# Altium integrated library WE-GFH_rev15a.intlib: 45 symbols
Pins are listed as number, name and electrical type; pins without a type are passive.

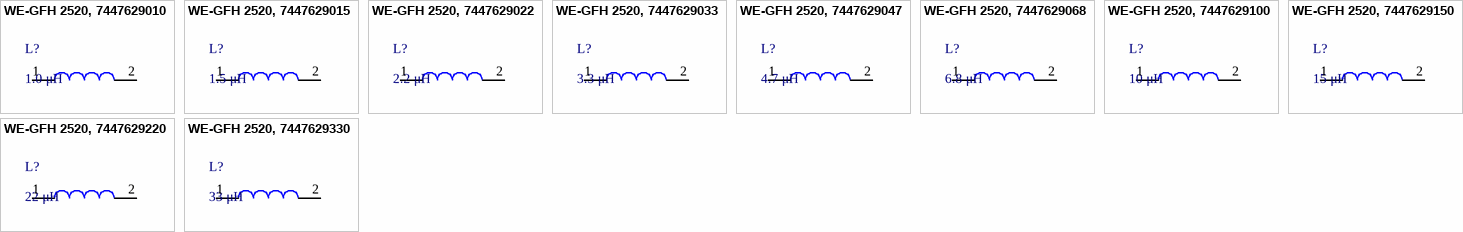
[diagram p0: symbols WE-GFH 2520, 7447629010 to WE-GFH 2520, 7447629330]

## WE-GFH 2520, 7447629010
designator L?, comment 1.0 μH
WE-GFH SMD Wire Wound Inductor, Inductance = 1.0 μH; partNo: 7447629010; Manufacturer: Wurth Elektronik; Inductance: 1.0 μH; ComponentLink1Description: Manufacturer; ComponentLink1URL: http://www.we-online.de; Created by: Baojun Chen; Created Date: Nov.2015; ComponentLink2Description: Datasheet; ComponentLink2URL: http://katalog.we-online.de/pbs/datasheet/7447629010.pdf
footprint WE-GFH_2520
pins: 1, 2

## WE-GFH 2520, 7447629015
designator L?, comment 1.5 μH
WE-GFH SMD Wire Wound Inductor, Inductance = 1.5 μH; partNo: 7447629015; Manufacturer: Wurth Elektronik; Inductance: 1.5 μH; ComponentLink1Description: Manufacturer; ComponentLink1URL: http://www.we-online.de; Created by: Baojun Chen; Created Date: Nov.2015; ComponentLink2Description: Datasheet; ComponentLink2URL: http://katalog.we-online.de/pbs/datasheet/7447629015.pdf
footprint WE-GFH_2520
pins: 1, 2

## WE-GFH 2520, 7447629022
designator L?, comment 2.2 μH
WE-GFH SMD Wire Wound Inductor, Inductance = 2.2 μH; partNo: 7447629022; Manufacturer: Wurth Elektronik; Inductance: 2.2 μH; ComponentLink1Description: Manufacturer; ComponentLink1URL: http://www.we-online.de; Created by: Baojun Chen; Created Date: Nov.2015; ComponentLink2Description: Datasheet; ComponentLink2URL: http://katalog.we-online.de/pbs/datasheet/7447629022.pdf
footprint WE-GFH_2520
pins: 1, 2

## WE-GFH 2520, 7447629033
designator L?, comment 3.3 μH
WE-GFH SMD Wire Wound Inductor, Inductance = 3.3 μH; partNo: 7447629033; Manufacturer: Wurth Elektronik; Inductance: 3.3 μH; ComponentLink1Description: Manufacturer; ComponentLink1URL: http://www.we-online.de; Created by: Baojun Chen; Created Date: Nov.2015; ComponentLink2Description: Datasheet; ComponentLink2URL: http://katalog.we-online.de/pbs/datasheet/7447629033.pdf
footprint WE-GFH_2520
pins: 1, 2

## WE-GFH 2520, 7447629047
designator L?, comment 4.7 μH
WE-GFH SMD Wire Wound Inductor, Inductance = 4.7 μH; partNo: 7447629047; Manufacturer: Wurth Elektronik; Inductance: 4.7 μH; ComponentLink1Description: Manufacturer; ComponentLink1URL: http://www.we-online.de; Created by: Baojun Chen; Created Date: Nov.2015; ComponentLink2Description: Datasheet; ComponentLink2URL: http://katalog.we-online.de/pbs/datasheet/7447629047.pdf
footprint WE-GFH_2520
pins: 1, 2

## WE-GFH 2520, 7447629068
designator L?, comment 6.8 μH
WE-GFH SMD Wire Wound Inductor, Inductance = 6.8 μH; partNo: 7447629068; Manufacturer: Wurth Elektronik; Inductance: 6.8 μH; ComponentLink1Description: Manufacturer; ComponentLink1URL: http://www.we-online.de; Created by: Baojun Chen; Created Date: Nov.2015; ComponentLink2Description: Datasheet; ComponentLink2URL: http://katalog.we-online.de/pbs/datasheet/7447629068.pdf
footprint WE-GFH_2520
pins: 1, 2

## WE-GFH 2520, 7447629100
designator L?, comment 10 μH
WE-GFH SMD Wire Wound Inductor, Inductance = 10 μH; partNo: 7447629100; Manufacturer: Wurth Elektronik; Inductance: 10 μH; ComponentLink1Description: Manufacturer; ComponentLink1URL: http://www.we-online.de; Created by: Baojun Chen; Created Date: Nov.2015; ComponentLink2Description: Datasheet; ComponentLink2URL: http://katalog.we-online.de/pbs/datasheet/7447629100.pdf
footprint WE-GFH_2520
pins: 1, 2

## WE-GFH 2520, 7447629150
designator L?, comment 15 μH
WE-GFH SMD Wire Wound Inductor, Inductance = 15 μH; partNo: 7447629150; Manufacturer: Wurth Elektronik; Inductance: 15 μH; ComponentLink1Description: Manufacturer; ComponentLink1URL: http://www.we-online.de; Created by: Baojun Chen; Created Date: Nov.2015; ComponentLink2Description: Datasheet; ComponentLink2URL: http://katalog.we-online.de/pbs/datasheet/7447629150.pdf
footprint WE-GFH_2520
pins: 1, 2

## WE-GFH 2520, 7447629220
designator L?, comment 22 μH
WE-GFH SMD Wire Wound Inductor, Inductance = 22 μH; partNo: 7447629220; Manufacturer: Wurth Elektronik; Inductance: 22 μH; ComponentLink1Description: Manufacturer; ComponentLink1URL: http://www.we-online.de; Created by: Baojun Chen; Created Date: Nov.2015; ComponentLink2Description: Datasheet; ComponentLink2URL: http://katalog.we-online.de/pbs/datasheet/7447629220.pdf
footprint WE-GFH_2520
pins: 1, 2

## WE-GFH 2520, 7447629330
designator L?, comment 33 μH
WE-GFH SMD Wire Wound Inductor, Inductance = 33 μH; partNo: 7447629330; Manufacturer: Wurth Elektronik; Inductance: 33 μH; ComponentLink1Description: Manufacturer; ComponentLink1URL: http://www.we-online.de; Created by: Baojun Chen; Created Date: Nov.2015; ComponentLink2Description: Datasheet; ComponentLink2URL: http://katalog.we-online.de/pbs/datasheet/7447629330.pdf
footprint WE-GFH_2520
pins: 1, 2


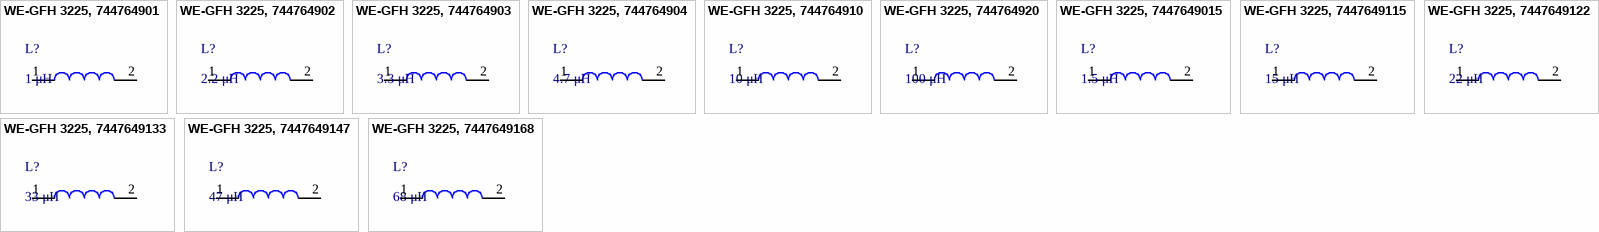
[diagram p1: symbols WE-GFH 3225, 744764901 to WE-GFH 3225, 7447649168]

## WE-GFH 3225, 744764901
designator L?, comment 1 μH
WE-GFH SMD Wire Wound Inductor, Inductance = 1 μH; partNo: 744764901; Manufacturer: Wurth Elektronik; Inductance: 1 μH; ComponentLink1Description: Manufacturer; ComponentLink1URL: http://www.we-online.de; Created by: Baojun Chen; Created Date: Nov.2015; ComponentLink2Description: Datasheet; ComponentLink2URL: http://katalog.we-online.de/pbs/datasheet/744764901.pdf
footprint WE-GFH_3225
pins: 1, 2

## WE-GFH 3225, 744764902
designator L?, comment 2.2 μH
WE-GFH SMD Wire Wound Inductor, Inductance = 2.2 μH; partNo: 744764902; Manufacturer: Wurth Elektronik; Inductance: 2.2 μH; ComponentLink1Description: Manufacturer; ComponentLink1URL: http://www.we-online.de; Created by: Baojun Chen; Created Date: Nov.2015; ComponentLink2Description: Datasheet; ComponentLink2URL: http://katalog.we-online.de/pbs/datasheet/744764902.pdf
footprint WE-GFH_3225
pins: 1, 2

## WE-GFH 3225, 744764903
designator L?, comment 3.3 μH
WE-GFH SMD Wire Wound Inductor, Inductance = 3.3 μH; partNo: 744764903; Manufacturer: Wurth Elektronik; Inductance: 3.3 μH; ComponentLink1Description: Manufacturer; ComponentLink1URL: http://www.we-online.de; Created by: Baojun Chen; Created Date: Nov.2015; ComponentLink2Description: Datasheet; ComponentLink2URL: http://katalog.we-online.de/pbs/datasheet/744764903.pdf
footprint WE-GFH_3225
pins: 1, 2

## WE-GFH 3225, 744764904
designator L?, comment 4.7 μH
WE-GFH SMD Wire Wound Inductor, Inductance = 4.7 μH; partNo: 744764904; Manufacturer: Wurth Elektronik; Inductance: 4.7 μH; ComponentLink1Description: Manufacturer; ComponentLink1URL: http://www.we-online.de; Created by: Baojun Chen; Created Date: Nov.2015; ComponentLink2Description: Datasheet; ComponentLink2URL: http://katalog.we-online.de/pbs/datasheet/744764904.pdf
footprint WE-GFH_3225
pins: 1, 2

## WE-GFH 3225, 744764910
designator L?, comment 10 μH
WE-GFH SMD Wire Wound Inductor, Inductance = 10 μH; partNo: 744764910; Manufacturer: Wurth Elektronik; Inductance: 10 μH; ComponentLink1Description: Manufacturer; ComponentLink1URL: http://www.we-online.de; Created by: Baojun Chen; Created Date: Nov.2015; ComponentLink2Description: Datasheet; ComponentLink2URL: http://katalog.we-online.de/pbs/datasheet/744764910.pdf
footprint WE-GFH_3225
pins: 1, 2

## WE-GFH 3225, 744764920
designator L?, comment 100 μH
WE-GFH SMD Wire Wound Inductor, Inductance = 100 μH; partNo: 744764920; Manufacturer: Wurth Elektronik; Inductance: 100 μH; ComponentLink1Description: Manufacturer; ComponentLink1URL: http://www.we-online.de; Created by: Baojun Chen; Created Date: Nov.2015; ComponentLink2Description: Datasheet; ComponentLink2URL: http://katalog.we-online.de/pbs/datasheet/744764920.pdf
footprint WE-GFH_3225
pins: 1, 2

## WE-GFH 3225, 7447649015
designator L?, comment 1.5 μH
WE-GFH SMD Wire Wound Inductor, Inductance = 1.5 μH; partNo: 7447649015; Manufacturer: Wurth Elektronik; Inductance: 1.5 μH; ComponentLink1Description: Manufacturer; ComponentLink1URL: http://www.we-online.de; Created by: Baojun Chen; Created Date: Nov.2015; ComponentLink2Description: Datasheet; ComponentLink2URL: http://katalog.we-online.de/pbs/datasheet/7447649015.pdf
footprint WE-GFH_3225
pins: 1, 2

## WE-GFH 3225, 7447649115
designator L?, comment 15 μH
WE-GFH SMD Wire Wound Inductor, Inductance = 15 μH; partNo: 7447649115; Manufacturer: Wurth Elektronik; Inductance: 15 μH; ComponentLink1Description: Manufacturer; ComponentLink1URL: http://www.we-online.de; Created by: Baojun Chen; Created Date: Nov.2015; ComponentLink2Description: Datasheet; ComponentLink2URL: http://katalog.we-online.de/pbs/datasheet/7447649115.pdf
footprint WE-GFH_3225
pins: 1, 2

## WE-GFH 3225, 7447649122
designator L?, comment 22 μH
WE-GFH SMD Wire Wound Inductor, Inductance = 22 μH; partNo: 7447649122; Manufacturer: Wurth Elektronik; Inductance: 22 μH; ComponentLink1Description: Manufacturer; ComponentLink1URL: http://www.we-online.de; Created by: Baojun Chen; Created Date: Nov.2015; ComponentLink2Description: Datasheet; ComponentLink2URL: http://katalog.we-online.de/pbs/datasheet/7447649122.pdf
footprint WE-GFH_3225
pins: 1, 2

## WE-GFH 3225, 7447649133
designator L?, comment 33 μH
WE-GFH SMD Wire Wound Inductor, Inductance = 33 μH; partNo: 7447649133; Manufacturer: Wurth Elektronik; Inductance: 33 μH; ComponentLink1Description: Manufacturer; ComponentLink1URL: http://www.we-online.de; Created by: Baojun Chen; Created Date: Nov.2015; ComponentLink2Description: Datasheet; ComponentLink2URL: http://katalog.we-online.de/pbs/datasheet/7447649133.pdf
footprint WE-GFH_3225
pins: 1, 2

## WE-GFH 3225, 7447649147
designator L?, comment 47 μH
WE-GFH SMD Wire Wound Inductor, Inductance = 47 μH; partNo: 7447649147; Manufacturer: Wurth Elektronik; Inductance: 47 μH; ComponentLink1Description: Manufacturer; ComponentLink1URL: http://www.we-online.de; Created by: Baojun Chen; Created Date: Nov.2015; ComponentLink2Description: Datasheet; ComponentLink2URL: http://katalog.we-online.de/pbs/datasheet/7447649147.pdf
footprint WE-GFH_3225
pins: 1, 2

## WE-GFH 3225, 7447649168
designator L?, comment 68 μH
WE-GFH SMD Wire Wound Inductor, Inductance = 68 μH; partNo: 7447649168; Manufacturer: Wurth Elektronik; Inductance: 68 μH; ComponentLink1Description: Manufacturer; ComponentLink1URL: http://www.we-online.de; Created by: Baojun Chen; Created Date: Nov.2015; ComponentLink2Description: Datasheet; ComponentLink2URL: http://katalog.we-online.de/pbs/datasheet/7447649168.pdf
footprint WE-GFH_3225
pins: 1, 2


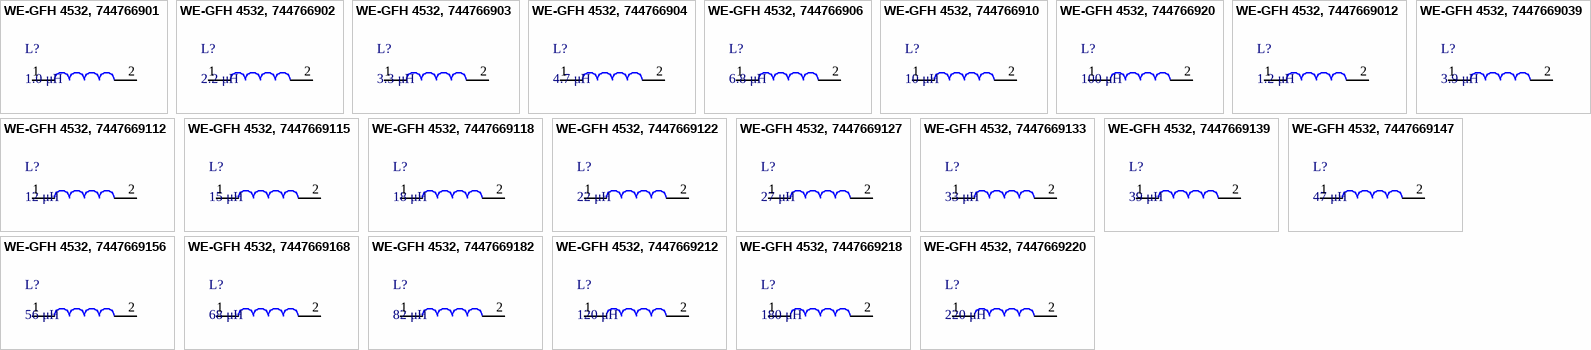
[diagram p2: symbols WE-GFH 4532, 744766901 to WE-GFH 4532, 7447669220]

## WE-GFH 4532, 744766901
designator L?, comment 1.0 μH
WE-GFH SMD Wire Wound Inductor, Inductance =  1.0 μH; partNo: 744766901; Manufacturer: Wurth Elektronik; Inductance: 1.0 μH; ComponentLink1Description: Manufacturer; ComponentLink1URL: http://www.we-online.de; Created by: Baojun Chen; Created Date: Nov.2015; ComponentLink2Description: Datasheet; ComponentLink2URL: http://katalog.we-online.de/pbs/datasheet/744766901.pdf
footprint WE-GFH_4532
pins: 1, 2

## WE-GFH 4532, 744766902
designator L?, comment 2.2 μH
WE-GFH SMD Wire Wound Inductor, Inductance = 2.2 μH; partNo: 744766902; Manufacturer: Wurth Elektronik; Inductance: 2.2 μH; ComponentLink1Description: Manufacturer; ComponentLink1URL: http://www.we-online.de; Created by: Baojun Chen; Created Date: Nov.2015; ComponentLink2Description: Datasheet; ComponentLink2URL: http://katalog.we-online.de/pbs/datasheet/744766902.pdf
footprint WE-GFH_4532
pins: 1, 2

## WE-GFH 4532, 744766903
designator L?, comment 3.3 μH
WE-GFH SMD Wire Wound Inductor, Inductance = 3.3 μH; partNo: 744766903; Manufacturer: Wurth Elektronik; Inductance: 3.3 μH; ComponentLink1Description: Manufacturer; ComponentLink1URL: http://www.we-online.de; Created by: Baojun Chen; Created Date: Nov.2015; ComponentLink2Description: Datasheet; ComponentLink2URL: http://katalog.we-online.de/pbs/datasheet/744766903.pdf
footprint WE-GFH_4532
pins: 1, 2

## WE-GFH 4532, 744766904
designator L?, comment 4.7 μH
WE-GFH SMD Wire Wound Inductor, Inductance = 4.7 μH; partNo: 744766904; Manufacturer: Wurth Elektronik; Inductance: 4.7 μH; ComponentLink1Description: Manufacturer; ComponentLink1URL: http://www.we-online.de; Created by: Baojun Chen; Created Date: Nov.2015; ComponentLink2Description: Datasheet; ComponentLink2URL: http://katalog.we-online.de/pbs/datasheet/744766904.pdf
footprint WE-GFH_4532
pins: 1, 2

## WE-GFH 4532, 744766906
designator L?, comment 6.8 μH
WE-GFH SMD Wire Wound Inductor, Inductance = 6.8 μH; partNo: 744766906; Manufacturer: Wurth Elektronik; Inductance: 6.8 μH; ComponentLink1Description: Manufacturer; ComponentLink1URL: http://www.we-online.de; Created by: Baojun Chen; Created Date: Nov.2015; ComponentLink2Description: Datasheet; ComponentLink2URL: http://katalog.we-online.de/pbs/datasheet/744766906.pdf
footprint WE-GFH_4532
pins: 1, 2

## WE-GFH 4532, 744766910
designator L?, comment 10 μH
WE-GFH SMD Wire Wound Inductor, Inductance = 10 μH; partNo: 744766910; Manufacturer: Wurth Elektronik; Inductance: 10 μH; ComponentLink1Description: Manufacturer; ComponentLink1URL: http://www.we-online.de; Created by: Baojun Chen; Created Date: Nov.2015; ComponentLink2Description: Datasheet; ComponentLink2URL: http://katalog.we-online.de/pbs/datasheet/744766910.pdf
footprint WE-GFH_4532
pins: 1, 2

## WE-GFH 4532, 744766920
designator L?, comment 100 μH
WE-GFH SMD Wire Wound Inductor, Inductance = 100 μH; partNo: 744766920; Manufacturer: Wurth Elektronik; Inductance: 100 μH; ComponentLink1Description: Manufacturer; ComponentLink1URL: http://www.we-online.de; Created by: Baojun Chen; Created Date: Nov.2015; ComponentLink2Description: Datasheet; ComponentLink2URL: http://katalog.we-online.de/pbs/datasheet/744766920.pdf
footprint WE-GFH_4532
pins: 1, 2

## WE-GFH 4532, 7447669012
designator L?, comment 1.2 μH
WE-GFH SMD Wire Wound Inductor, Inductance = 1.2 μH; partNo: 7447669012; Manufacturer: Wurth Elektronik; Inductance: 1.2 μH; ComponentLink1Description: Manufacturer; ComponentLink1URL: http://www.we-online.de; Created by: Baojun Chen; Created Date: Nov.2015; ComponentLink2Description: Datasheet; ComponentLink2URL: http://katalog.we-online.de/pbs/datasheet/7447669012.pdf
footprint WE-GFH_4532
pins: 1, 2

## WE-GFH 4532, 7447669039
designator L?, comment 3.9 μH
WE-GFH SMD Wire Wound Inductor, Inductance = 3.9 μH; partNo: 7447669039; Manufacturer: Wurth Elektronik; Inductance: 3.9 μH; ComponentLink1Description: Manufacturer; ComponentLink1URL: http://www.we-online.de; Created by: Baojun Chen; Created Date: Nov.2015; ComponentLink2Description: Datasheet; ComponentLink2URL: http://katalog.we-online.de/pbs/datasheet/7447669039.pdf
footprint WE-GFH_4532
pins: 1, 2

## WE-GFH 4532, 7447669112
designator L?, comment 12 μH
WE-GFH SMD Wire Wound Inductor, Inductance = 12 μH; partNo: 7447669112; Manufacturer: Wurth Elektronik; Inductance: 12 μH; ComponentLink1Description: Manufacturer; ComponentLink1URL: http://www.we-online.de; Created by: Baojun Chen; Created Date: Nov.2015; ComponentLink2Description: Datasheet; ComponentLink2URL: http://katalog.we-online.de/pbs/datasheet/7447669112.pdf
footprint WE-GFH_4532
pins: 1, 2

## WE-GFH 4532, 7447669115
designator L?, comment 15 μH
WE-GFH SMD Wire Wound Inductor, Inductance = 15 μH; partNo: 7447669115; Manufacturer: Wurth Elektronik; Inductance: 15 μH; ComponentLink1Description: Manufacturer; ComponentLink1URL: http://www.we-online.de; Created by: Baojun Chen; Created Date: Nov.2015; ComponentLink2Description: Datasheet; ComponentLink2URL: http://katalog.we-online.de/pbs/datasheet/7447669115.pdf
footprint WE-GFH_4532
pins: 1, 2

## WE-GFH 4532, 7447669118
designator L?, comment 18 μH
WE-GFH SMD Wire Wound Inductor, Inductance = 18 μH; partNo: 7447669118; Manufacturer: Wurth Elektronik; Inductance: 18 μH; ComponentLink1Description: Manufacturer; ComponentLink1URL: http://www.we-online.de; Created by: Baojun Chen; Created Date: Nov.2015; ComponentLink2Description: Datasheet; ComponentLink2URL: http://katalog.we-online.de/pbs/datasheet/7447669118.pdf
footprint WE-GFH_4532
pins: 1, 2

## WE-GFH 4532, 7447669122
designator L?, comment 22 μH
WE-GFH SMD Wire Wound Inductor, Inductance = 22 μH; partNo: 7447669122; Manufacturer: Wurth Elektronik; Inductance: 22 μH; ComponentLink1Description: Manufacturer; ComponentLink1URL: http://www.we-online.de; Created by: Baojun Chen; Created Date: Nov.2015; ComponentLink2Description: Datasheet; ComponentLink2URL: http://katalog.we-online.de/pbs/datasheet/7447669122.pdf
footprint WE-GFH_4532
pins: 1, 2

## WE-GFH 4532, 7447669127
designator L?, comment 27 μH
WE-GFH SMD Wire Wound Inductor, Inductance = 27 μH; partNo: 7447669127; Manufacturer: Wurth Elektronik; Inductance: 27 μH; ComponentLink1Description: Manufacturer; ComponentLink1URL: http://www.we-online.de; Created by: Baojun Chen; Created Date: Nov.2015; ComponentLink2Description: Datasheet; ComponentLink2URL: http://katalog.we-online.de/pbs/datasheet/7447669127.pdf
footprint WE-GFH_4532
pins: 1, 2

## WE-GFH 4532, 7447669133
designator L?, comment 33 μH
WE-GFH SMD Wire Wound Inductor, Inductance = 33 μH; partNo: 7447669133; Manufacturer: Wurth Elektronik; Inductance: 33 μH; ComponentLink1Description: Manufacturer; ComponentLink1URL: http://www.we-online.de; Created by: Baojun Chen; Created Date: Nov.2015; ComponentLink2Description: Datasheet; ComponentLink2URL: http://katalog.we-online.de/pbs/datasheet/7447669133.pdf
footprint WE-GFH_4532
pins: 1, 2

## WE-GFH 4532, 7447669139
designator L?, comment 39 μH
WE-GFH SMD Wire Wound Inductor, Inductance = 39 μH; partNo: 7447669139; Manufacturer: Wurth Elektronik; Inductance: 39 μH; ComponentLink1Description: Manufacturer; ComponentLink1URL: http://www.we-online.de; Created by: Baojun Chen; Created Date: Nov.2015; ComponentLink2Description: Datasheet; ComponentLink2URL: http://katalog.we-online.de/pbs/datasheet/7447669139.pdf
footprint WE-GFH_4532
pins: 1, 2

## WE-GFH 4532, 7447669147
designator L?, comment 47 μH
WE-GFH SMD Wire Wound Inductor, Inductance = 47 μH; partNo: 7447669147; Manufacturer: Wurth Elektronik; Inductance: 47 μH; ComponentLink1Description: Manufacturer; ComponentLink1URL: http://www.we-online.de; Created by: Baojun Chen; Created Date: Nov.2015; ComponentLink2Description: Datasheet; ComponentLink2URL: http://katalog.we-online.de/pbs/datasheet/7447669147.pdf
footprint WE-GFH_4532
pins: 1, 2

## WE-GFH 4532, 7447669156
designator L?, comment 56 μH
WE-GFH SMD Wire Wound Inductor, Inductance = 56 μH; partNo: 7447669156; Manufacturer: Wurth Elektronik; Inductance: 56 μH; ComponentLink1Description: Manufacturer; ComponentLink1URL: http://www.we-online.de; Created by: Baojun Chen; Created Date: Nov.2015; ComponentLink2Description: Datasheet; ComponentLink2URL: http://katalog.we-online.de/pbs/datasheet/7447669156.pdf
footprint WE-GFH_4532
pins: 1, 2

## WE-GFH 4532, 7447669168
designator L?, comment 68 μH
WE-GFH SMD Wire Wound Inductor, Inductance = 68 μH; partNo: 7447669168; Manufacturer: Wurth Elektronik; Inductance: 68 μH; ComponentLink1Description: Manufacturer; ComponentLink1URL: http://www.we-online.de; Created by: Baojun Chen; Created Date: Nov.2015; ComponentLink2Description: Datasheet; ComponentLink2URL: http://katalog.we-online.de/pbs/datasheet/7447669168.pdf
footprint WE-GFH_4532
pins: 1, 2

## WE-GFH 4532, 7447669182
designator L?, comment 82 μH
WE-GFH SMD Wire Wound Inductor, Inductance = 82 μH; partNo: 7447669182; Manufacturer: Wurth Elektronik; Inductance: 82 μH; ComponentLink1Description: Manufacturer; ComponentLink1URL: http://www.we-online.de; Created by: Baojun Chen; Created Date: Nov.2015; ComponentLink2Description: Datasheet; ComponentLink2URL: http://katalog.we-online.de/pbs/datasheet/7447669182.pdf
footprint WE-GFH_4532
pins: 1, 2

## WE-GFH 4532, 7447669212
designator L?, comment 120 μH
WE-GFH SMD Wire Wound Inductor, Inductance = 120 μH; partNo: 7447669212; Manufacturer: Wurth Elektronik; Inductance: 120 μH; ComponentLink1Description: Manufacturer; ComponentLink1URL: http://www.we-online.de; Created by: Baojun Chen; Created Date: Nov.2015; ComponentLink2Description: Datasheet; ComponentLink2URL: http://katalog.we-online.de/pbs/datasheet/7447669212.pdf
footprint WE-GFH_4532
pins: 1, 2

## WE-GFH 4532, 7447669218
designator L?, comment 180 μH
WE-GFH SMD Wire Wound Inductor, Inductance = 180 μH; partNo: 7447669218; Manufacturer: Wurth Elektronik; Inductance: 180 μH; ComponentLink1Description: Manufacturer; ComponentLink1URL: http://www.we-online.de; Created by: Baojun Chen; Created Date: Nov.2015; ComponentLink2Description: Datasheet; ComponentLink2URL: http://katalog.we-online.de/pbs/datasheet/7447669218.pdf
footprint WE-GFH_4532
pins: 1, 2

## WE-GFH 4532, 7447669220
designator L?, comment 220 μH
WE-GFH SMD Wire Wound Inductor, Inductance = 220 μH; partNo: 7447669220; Manufacturer: Wurth Elektronik; Inductance: 220 μH; ComponentLink1Description: Manufacturer; ComponentLink1URL: http://www.we-online.de; Created by: Baojun Chen; Created Date: Nov.2015; ComponentLink2Description: Datasheet; ComponentLink2URL: http://katalog.we-online.de/pbs/datasheet/7447669220.pdf
footprint WE-GFH_4532
pins: 1, 2